# EAGLE library part TS3A5017 (library 0_jc-custom-eagle6)
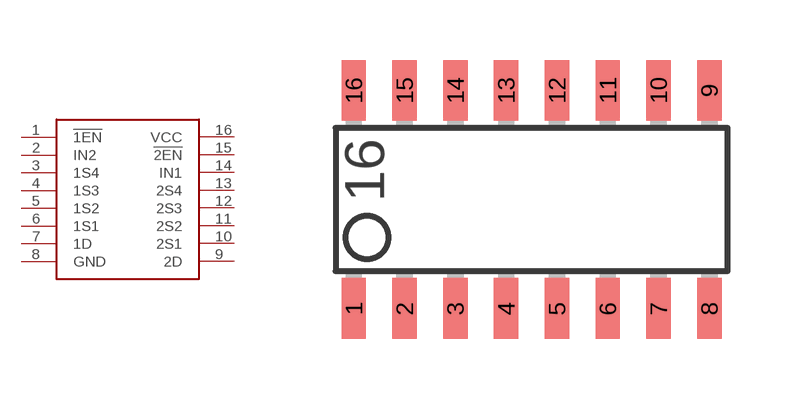
[diagram p28: symbol with the pads of SO-16; footprint SO-16]

Designator prefix -

## TS3A5017DR  [SO-16]
1  !1EN
2  IN2
3  1S4
4  1S3
5  1S2
6  1S1
7  1D
8  GND
9  2D
10  2S1
11  2S2
12  2S3
13  2S4
14  IN1
15  !2EN
16  VCC

## Footprint SO-16 (pad centres in mm)
Small Outline Integrated Circuit
smd 0.61 x 1.524: 1 -4.445,-2.794; 2 -3.175,-2.794; 3 -1.905,-2.794; 4 -0.635,-2.794; 5 0.635,-2.794; 6 1.905,-2.794; 7 3.175,-2.794; 8 4.445,-2.794; 9 4.445,2.667; 10 3.175,2.667; 11 1.905,2.667; 12 0.635,2.667; 13 -0.635,2.667; 14 -1.905,2.667; 15 -3.175,2.667; 16 -4.445,2.667